# EAGLE library part CONNECTOR_CAN (library rhoban)
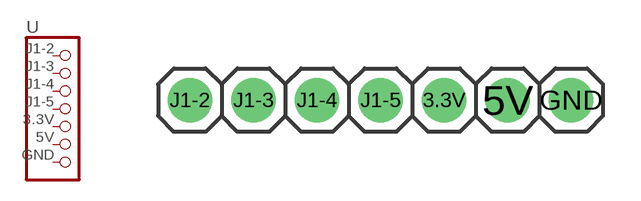
[diagram p10: symbol with the pads of CONNECTOR_CAN; footprint CONNECTOR_CAN]

Designator prefix -

## CONNECTOR_CAN  [CONNECTOR_CAN]
3.3V  3.3V  pas
5V  5V  pas
GND  GND  pas
J1-2  J1-2  pas
J1-3  J1-3  pas
J1-4  J1-4  pas
J1-5  J1-5  pas

## Footprint CONNECTOR_CAN (pad centres in mm)
drill 1 pad 1.778: 3.3V 8.89,1.27; 5V 11.43,1.27; GND 13.97,1.27; J1-2 -1.27,1.27; J1-3 1.27,1.27; J1-4 3.81,1.27; J1-5 6.35,1.27